# Altium schematic symbol library REED-SWITCH.SchLib: 1 symbol
Pins are listed as number, name and electrical type; pins without a type are passive.

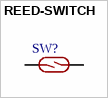
[diagram p0: symbol REED-SWITCH]

## REED-SWITCH
designator SW?
pins: 1, 2